# Altium schematic symbol library 1720650202.SchLib: 2 symbols
Pins are listed as number, name and electrical type; pins without a type are passive.

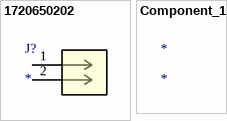
[diagram p0: symbols 1720650202 to Component_1]

## 1720650202
designator J?
No Description Available; Mfr_Name: Molex Connector Corporation; RefDes: RefDes; Type: Type
footprint CONN_SD-768290002_02_MOL
pins: 1, 2

## Component_1
designator *